# Altium footprint library Resistor_updated.PcbLib: 18 footprints (part 1 of 2)
Each footprint in its own frame and in the unit in brackets; x right, y up, seen from the top. Pads: shape width x height; smd on the part's side, far side on the other; paste and mask are expansions set on the pad; w line width, h text height; cw(c..) or ccw(c..) is an arc to the next point about the centre after c.
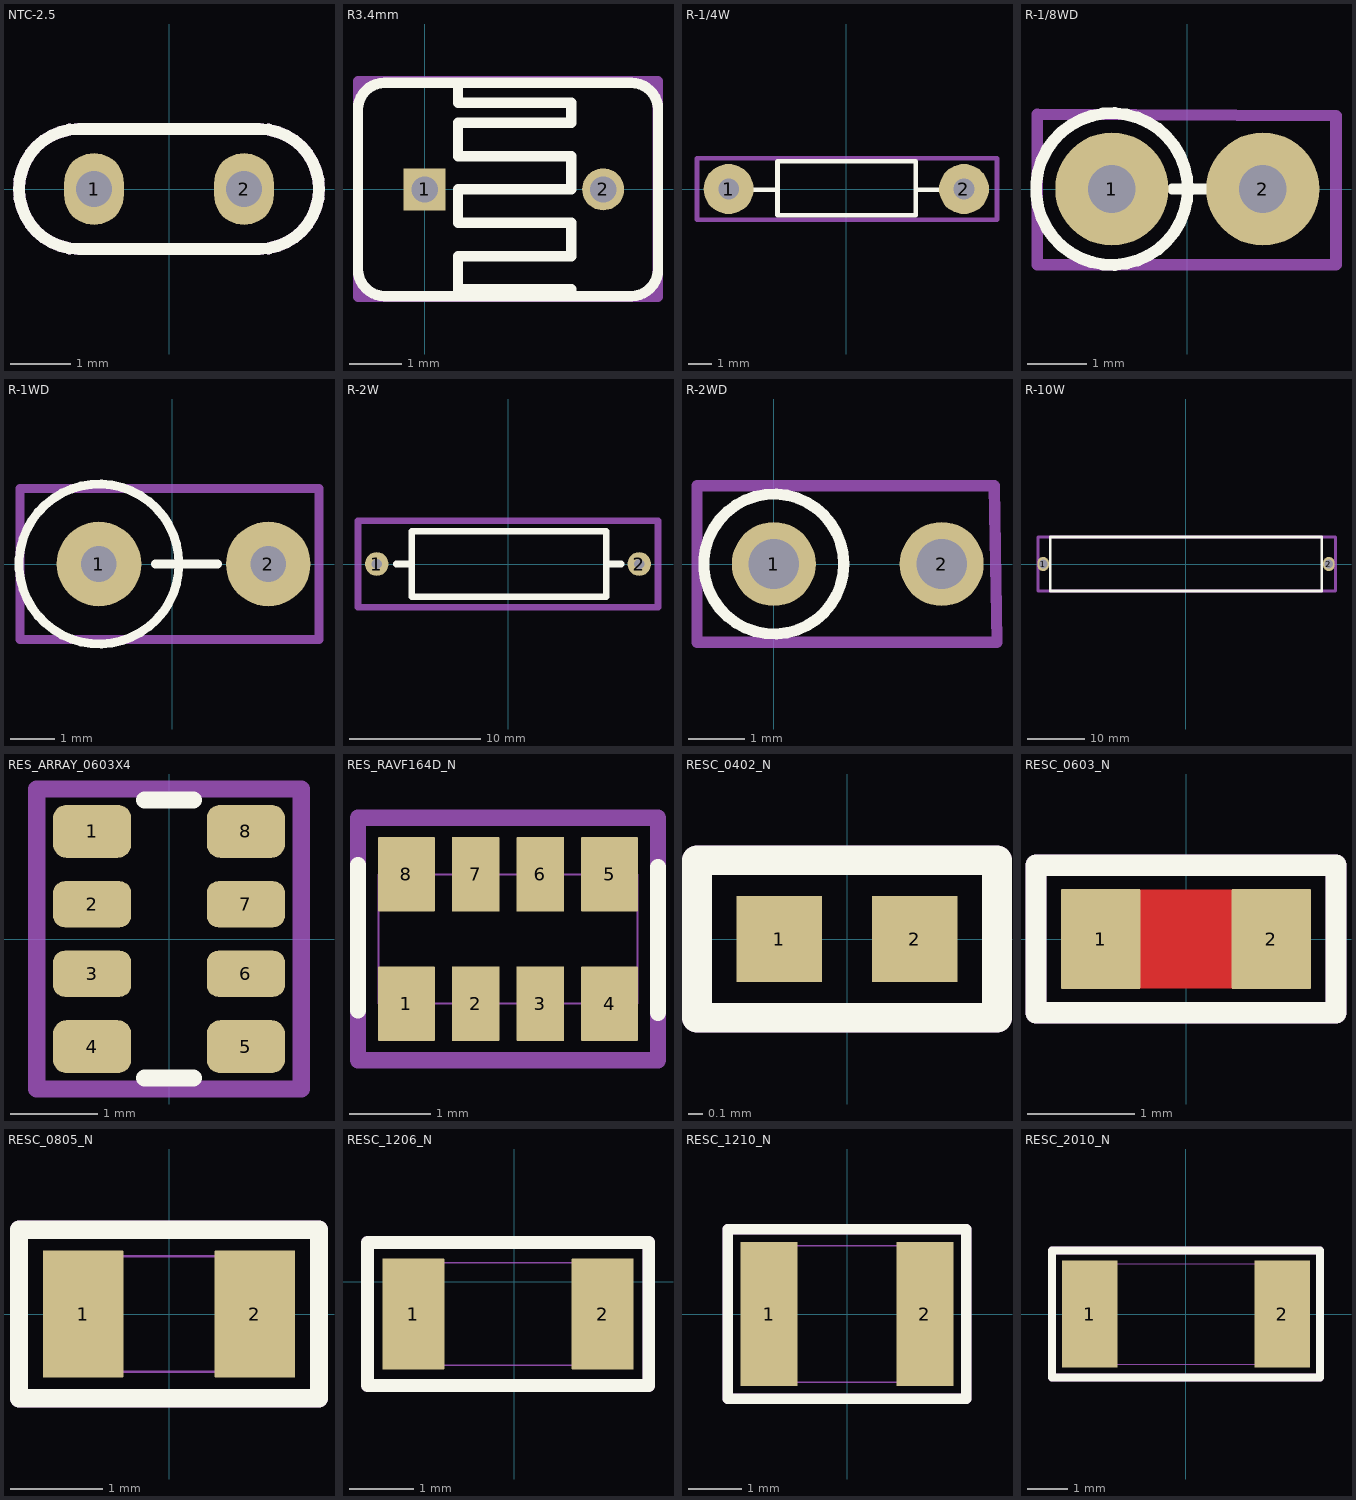
[diagram p0: the footprints below, top view; thin cyan lines are the x and y axes]

## NTC-2.5 [mm]
pads (2):
  oval 1x1.2 hole 0.6: 1(-1.25,0) 2(1.25,0)
Top Overlay:
  lines w0.2: -2.5,0 cw(c-1.5,0) -1.5,1 1.5,1 cw(c1.5,0) 2.5,0 cw(c1.5,0) 1.5,-1 -1.5,-1 cw(c-1.5,0) -2.5,0
Mechanical 13:
  lines w0.2: -2.5,0 cw(c-1.5,0) -1.5,1 1.5,1 cw(c1.5,0) 2.5,0 cw(c1.5,0) 1.5,-1 -1.5,-1 cw(c-1.5,0) -2.5,0
  text ".Designator" at -1.5,-0.217 h1.5

## R3.4mm [mm]
pads (2):
  rect 0.8x0.8 hole 0.5: 1(0,0)
  round 0.8 hole 0.5: 2(3.4,0)
Top Overlay:
  lines w0.2: 0.635,2.032 0.635,1.651 2.794,1.651 2.794,1.27 0.635,1.27 0.635,0.635 2.794,0.635 2.794,0 0.635,0 0.635,-0.635 2.794,-0.635 2.794,-1.27 0.635,-1.27 0.635,-1.905 2.794,-1.905 ; -0.762,2.032 ccw(c-0.762,1.524) -1.27,1.524 -1.27,1.143 -1.27,-1.524 ccw(c-0.762,-1.524) -0.762,-2.032 3.937,-2.032 ccw(c3.937,-1.524) 4.445,-1.524 4.445,1.523 ccw(c3.936,1.523) 3.936,2.032 ; -0.762,2.032 3.936,2.032 ; -0.762,2.032 3.936,2.032 ; 3.936,2.032 ccw(c3.936,2.032) 3.936,2.032
Mechanical 13:
  lines w0.2: -1.27,-2.043 4.442,-2.043 4.442,2.057 -1.27,2.057 -1.27,-2.043
  text ".Designator" at -0.965,-0.457 h2
3D body: height 0.25, standoff 0, extent -1.27,-2.032 4.445,2.032
3D body: height 4, standoff 0, extent -0.149,-0.15 0.15,0.15
3D body: height 4, standoff 0, extent 3.251,-0.15 3.55,0.15

## R-1/4W [mil]
height 100
pads (2):
  round 85 hole 35: 1(-200,0) 2(200,0)
Top Overlay:
  lines w7.87: -158,-1 -117,-1 ; 118,-1 156,-1 ; -117,-44.37 -117,47.25 118,47.25 118,-44.37 -117,-44.37
Mechanical 13:
  lines w7.87: -253.7,-52.06 -253.7,52.09 256.14,52.09 256.14,-52.06 -253.7,-52.06
  text ".Designator" at -91.3,-10.91 h39.37
3D body "User Library-Res40-Axial Short 0_25W-0_1R.step": height 95, standoff -78.74, extent -211.8,-47.24 211.82,47.25

## R-1/8WD [mm]
height 2.54
pads (2):
  round 1.905 hole 0.8: 1(-1.27,0) 2(1.27,0)
Top Overlay:
  circle w0.2: c-1.27,0 r1.276
  lines w0.178: -0.254,0 0.381,0
Mechanical 13:
  lines w0.2: -2.525,-1.275 -2.525,1.258 2.5,1.233 2.5,-1.275 -2.525,-1.275
  text ".Designator" at -2.175,-0.1 h1
3D body "SW3dPS-Res_Stand.STEP": height 7.3, standoff -1.45, extent -2.159,-0.92 1.553,0.92

## R-1WD [mm]
height 2.54
pads (2):
  round 1.905 hole 0.8: 1(-1.651,0) 2(2.159,0)
Top Overlay:
  circle w0.2: c-1.651,0 r1.8
  lines w0.2: -0.381,0 1.016,0
Mechanical 13:
  lines w0.2: -3.429,-1.702 -3.429,-1.676 -3.429,1.702 3.302,1.702 3.302,-1.702 -3.429,-1.702
  text ".Designator" at -3.175,-0.325 h1.5
3D body "SW3DPS-0_5W METAL FILM RESISTOR-DEFAULT.STEP": height 12.65, standoff -5.05, extent -3.429,-1.7 2.671,1.7

## R-2W [mm]
pads (2):
  round 1.8 hole 0.8: 1(-10,0) 2(10,0)
Top Overlay:
  lines w0.5: -8.509,0 -7.333,0 ; 7.516,0 8.636,0 ; -7.333,-2.5 -7.333,2.5 7.5,2.5 7.5,-2.5 -7.333,-2.5
Mechanical 13:
  lines w0.5: -11.43,-3.302 11.43,-3.302 11.43,3.302 -11.43,3.302 -11.43,-3.302
  text ".Designator" at -7.874,-0.635 h3
3D body "Res20mm.STEP": height 7.2, standoff -1.6, extent -10.559,-3.2 10.541,3.2

## R-2WD [mm]
pads (2):
  round 1.5 hole 0.9: 1(0,0) 2(3,0)
Top Overlay:
  circle w0.2: c0,0 r1.25
Mechanical 13:
  lines w0.2: -1.372,-1.397 -1.372,1.397 3.937,1.397 3.988,-1.397 -1.372,-1.397
  text ".Designator" at -1.118,-0.381 h1.5
3D body: height 11.8, standoff 0.3, extent -1.24,-1.248 1.25,1.248

## R-10W [mm]
pads (2):
  oval 2x2.5 hole 1.5: 1(-25,0) 2(25,0)
Top Overlay:
  lines w0.5: -23.75,-4.699 23.75,-4.699 23.75,4.699 -23.75,4.699 -23.75,-4.699
Mechanical 13:
  lines w0.5: -25.905,-4.699 26.165,-4.699 26.165,4.699 -25.905,4.699 -25.905,-4.699
  text ".Designator" at -12.065,-0.508 h3
3D body "SQP10AJB-10R.STEP": height 10.55, standoff -4.04, extent -24.9,-4.5 24.9,4.5

## RES_ARRAY_0603X4 [mm]
pads (8):
  rrect50% 0.9x0.61 smd mask+0.075: 1(-0.885,1.24) 4(-0.885,-1.24) 5(0.885,-1.24) 8(0.885,1.24)
  rrect50% 0.9x0.53 smd mask+0.075: 2(-0.885,0.4) 3(-0.885,-0.4) 6(0.885,-0.4) 7(0.885,0.4)
Top Overlay:
  lines w0.2: -0.279,-1.6 0.279,-1.6 ; -0.279,1.6 0.279,1.6
Mechanical 13:
  lines w0.2: -1.524,-1.727 1.524,-1.727 1.524,1.727 -1.524,1.727 -1.524,-1.727
  text ".Designator" at 0.66,-1.753 h1.5
3D body "R-0603-Array-4-1.step": height 0.51, standoff -0.01, extent -0.8,-1.6 0.8,1.6

## RES_RAVF164D_N [mm]
pads (8):
  rrect3% 0.7x0.92 smd: 1(1.92,-3.111) 4(4.43,-3.111) 5(4.43,-1.511) 8(1.92,-1.511)
  rrect3% 0.59x0.92 smd: 2(2.775,-3.111) 3(3.575,-3.111) 6(3.575,-1.511) 7(2.775,-1.511)
Top Overlay:
  lines w0.2: 1.321,-3.197 1.321,-1.397 ; 5.029,-3.222 5.029,-1.422
Mechanical 12:
  lines w0.025: 1.575,-3.111 1.575,-1.511 4.775,-1.511 4.775,-3.111 1.575,-3.111 ; 1.615,-3.111 2.225,-3.111 2.225,-2.811 1.615,-2.811 1.615,-3.111 ; 1.615,-1.811 2.225,-1.811 2.225,-1.511 1.615,-1.511 1.615,-1.811 ; 2.525,-3.111 3.025,-3.111 3.025,-2.811 2.525,-2.811 2.525,-3.111 ; 2.525,-1.811 3.025,-1.811 3.025,-1.511 2.525,-1.511 2.525,-1.811 ; 3.325,-3.111 3.825,-3.111 3.825,-2.811 3.325,-2.811 3.325,-3.111 ; 3.325,-1.811 3.825,-1.811 3.825,-1.511 3.325,-1.511 3.325,-1.811 ; 4.125,-3.111 4.735,-3.111 4.735,-2.811 4.125,-2.811 4.125,-3.111 ; 4.125,-1.811 4.735,-1.811 4.735,-1.511 4.125,-1.511 4.125,-1.811
Mechanical 13:
  lines w0.2: 1.321,-3.81 5.029,-3.81 5.029,-0.813 1.321,-0.813 1.321,-3.81
  text ".Designator" at 1.6,-2.515 h1
3D body "RESCAXS8P80_320X160X60L30X50.STEP": height 0.6, standoff 0, extent 1.575,-3.161 4.775,-1.461

## RESC_0402_N [mm] "Resistor, Chip; 1.00 mm L X 0.50 mm W X 0.37 mm H body"
height 0.37
pads (2):
  rect 0.58x0.58 smd: 1(-0.46,0) 2(0.46,0)
Top Overlay:
  lines w0.2: -1.016,-0.533 -1.016,0.533 1.016,0.533 1.016,-0.533 -1.016,-0.533
Mechanical 13:
  lines w0.2: -1.016,-0.533 1.016,-0.533 1.016,0.533 -1.016,0.533 -1.016,-0.533
  text ".Designator" at -0.94,-0.305 h1
3D body "RESC_0402_N.STEP": height 0.37, standoff 0, extent -0.5,-0.25 0.5,0.25

## RESC_0603_N [mm]
pads (2):
  rrect3% 0.74x0.93 smd: 1(-0.795,0) 2(0.795,0)
Top Layer:
  pour cut-out: -0.432,0.457 0.432,0.457 0.432,-0.457 -0.432,-0.457
Top Overlay:
  lines w0.2: -1.397,-0.686 -1.397,0.686 1.397,0.686 1.397,-0.686 -1.397,-0.686
Mechanical 13:
  lines w0.2: -1.397,-0.686 1.397,-0.686 1.397,0.686 -1.397,0.686 -1.397,-0.686
  text ".Designator" at -1.219,-0.279 h1
3D body "RESC_0603_N.STEP": height 0.55, standoff 0, extent -0.8,-0.4 0.8,0.4

## RESC_0805_N [mm]
pads (2):
  rrect2% 0.87x1.38 smd: 1(-0.93,0) 2(0.93,0)
Top Overlay:
  lines w0.2: -1.626,-0.914 -1.626,0.914 1.626,0.914 1.626,-0.914 -1.626,-0.914
Mechanical 12:
  lines w0.025: -1,-0.625 1,-0.625 ; -1,-0.625 -1,0.625 ; -1,-0.625 -1,0.625 ; -1,-0.625 -0.65,-0.625 -0.65,0.625 -1,0.625 ; -1,0.625 1,0.625 ; 1,-0.625 1,0.625 ; 1,-0.625 0.65,-0.625 0.65,0.625 1,0.625 ; 1,-0.625 1,0.625
Mechanical 13:
  lines w0.2: -1.626,-0.914 1.626,-0.914 1.626,0.914 -1.626,0.914 -1.626,-0.914
  text ".Designator" at -1.397,-0.305 h1
3D body "RESC_0805_N.STEP": height 0.6, standoff 0, extent -1,-0.625 1,0.625

## RESC_1206_N [mm]
pads (2):
  rrect2% 0.97x1.73 smd: 1(-1.582,-0.508) 2(1.378,-0.508)
Top Overlay:
  lines w0.2: -2.3,-1.626 -2.3,0.61 2.1,0.61 2.1,-1.626 -2.3,-1.626
Mechanical 12:
  lines w0.025: -1.652,-1.308 1.448,-1.308 ; -1.652,-1.308 -1.652,0.292 ; -1.652,-1.308 -1.652,0.292 ; -1.652,-1.308 -1.252,-1.308 -1.252,0.292 -1.652,0.292 ; -1.652,0.292 1.448,0.292 ; 1.448,-1.308 1.448,0.292 ; 1.448,-1.308 1.048,-1.308 1.048,0.292 1.448,0.292 ; 1.448,-1.308 1.448,0.292
Mechanical 13:
  lines w0.2: -2.3,-1.626 2.1,-1.626 2.1,0.61 -2.3,0.61 -2.3,-1.626
  text ".Designator" at -2.05,-0.75 h1
3D body "RESC310X160X65L40.STEP": height 0.65, standoff 0, extent -1.652,-1.308 1.448,0.292

## RESC_1210_N [mm]
pads (2):
  rrect2% 1.08x2.72 smd: 1(-1.47,0) 2(1.47,0)
Top Overlay:
  lines w0.2: -2.25,-1.6 -2.25,1.6 2.25,1.6 2.25,-1.6 -2.25,-1.6
Mechanical 12:
  lines w0.025: -1.587,-1.288 -1.088,-1.288 -1.088,1.288 -1.587,1.288 ; -1.587,-1.288 -1.587,1.288 ; -1.587,-1.288 -1.587,1.288 ; -1.587,-1.288 1.587,-1.288 ; -1.587,1.288 1.587,1.288 ; 1.587,-1.288 1.587,1.288 ; 1.587,-1.288 1.088,-1.288 1.088,1.288 1.587,1.288 ; 1.587,-1.288 1.587,1.288
Mechanical 13:
  lines w0.2: -2.25,-1.6 2.25,-1.6 2.25,1.6 -2.25,1.6 -2.25,-1.6
  text ".Designator" at -2.05,-0.225 h1
3D body "RESC317X257X70L50.STEP": height 0.7, standoff 0, extent -1.587,-1.287 1.588,1.288

## RESC_2010_N [mm]
pads (2):
  rrect1% 1.38x2.67 smd: 1(-2.395,0) 2(2.395,0)
Top Overlay:
  lines w0.2: -3.327,-1.575 -3.327,1.575 3.327,1.575 3.327,-1.575 -3.327,-1.575
Mechanical 12:
  lines w0.025: -2.5,-1.25 2.5,-1.25 ; -2.5,-1.25 -2.5,1.25 ; -2.5,-1.25 -2.5,1.25 ; -2.5,-1.25 -1.9,-1.25 -1.9,1.25 -2.5,1.25 ; -2.5,1.25 2.5,1.25 ; 2.5,-1.25 2.5,1.25 ; 2.5,-1.25 1.9,-1.25 1.9,1.25 2.5,1.25 ; 2.5,-1.25 2.5,1.25
Mechanical 13:
  lines w0.2: -3.327,-1.575 -3.327,1.575 3.327,1.575 3.327,-1.575 -3.327,-1.575
  text ".Designator" at -2.515,-0.178 h1
3D body "RESC500X250X71L60.STEP": height 0.71, standoff 0, extent -2.5,-1.25 2.5,1.25